# EAGLE library part TXB0104 (library we-chip)
TI TXB0104 4-Bit Bi-Directional Level Shifter (1.2V-3.6V to 1.65V-5.5V)
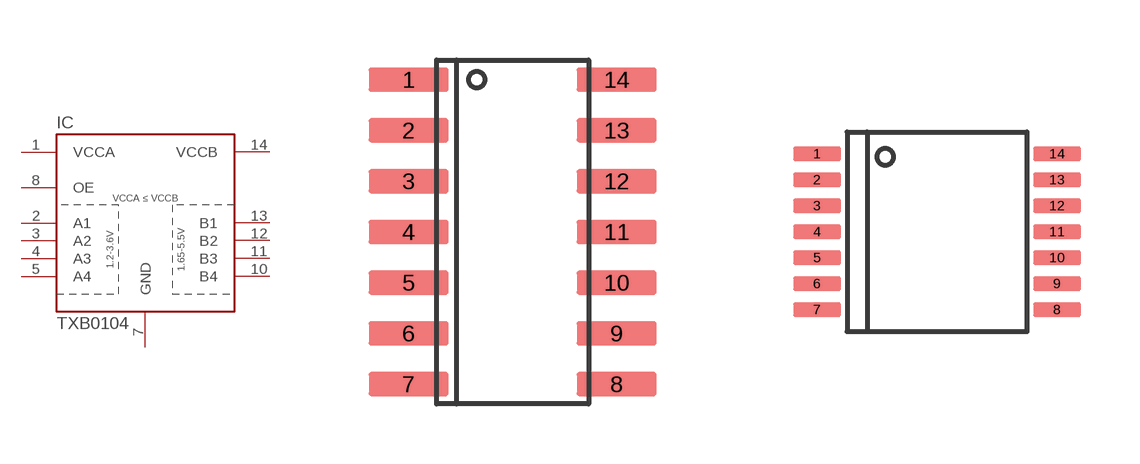
[diagram p33: symbol with the pads of SO14; footprints SO14, TSSOP14]

Designator prefix IC

## TXB0104-D (DIGIKEY: 296-21928-6-ND)  [SO14]
1  VCCA  pwr
2  A1
3  A2
4  A3
5  A4
7  GND  pwr
8  OE
10  B4
11  B3
12  B2
13  B1
14  VCCB  pwr

## TXB0104-PW (DIGIKEY: 296-21929-6-ND)  [TSSOP14]
Pads as for SO14

## Footprint SO14 (pad centres in mm)
smd 2 x 0.6: 1 -2.6,3.81; 2 -2.6,2.54; 3 -2.6,1.27; 4 -2.6,0; 5 -2.6,-1.27; 6 -2.6,-2.54; 7 -2.6,-3.81; 8 2.6,-3.81; 9 2.6,-2.54; 10 2.6,-1.27; 11 2.6,0; 12 2.6,1.27; 13 2.6,2.54; 14 2.6,3.81

## Footprint TSSOP14 (pad centres in mm)
smd 1.2 x 0.35: 1 -3,1.95; 2 -3,1.3; 3 -3,0.65; 4 -3,0; 5 -3,-0.65; 6 -3,-1.3; 7 -3,-1.95; 8 3,-1.95; 9 3,-1.3; 10 3,-0.65; 11 3,0; 12 3,0.65; 13 3,1.3; 14 3,1.95